# EAGLE library part 66201111122 (library Wurth_Elektronik_Electromechanic_Wire_to_Board_Connectors_rev16a)
WR-MPC3 3.00mm Male Single Row Vertical Header, 11 Pins=>Code : Con_WTB_MPC3_1_PCB_66201111122 <http://katalog.we-online.de/media/thumbs2/eican/thb_Con_WTB_MPC3_1_PCB_6620xx11122_pf2.jpg> Details see: http://katalog.we-online.de/en/em/662_0xx_111_22 Created 2014-06-06, Karrer Zheng 2014 (C) Würth Elektronik
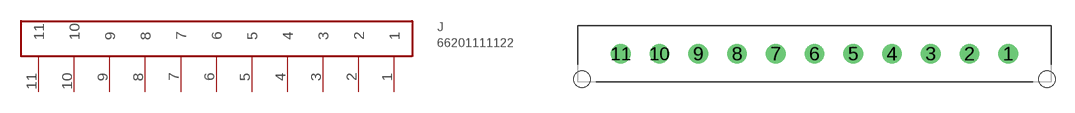
[diagram p357: symbol with the pads of 66201111122; footprint 66201111122]

Designator prefix J

## 66201111122  [66201111122]
1  1
2  2
3  3
4  4
5  5
6  6
7  7
8  8
9  9
10  10
11  11

## Footprint 66201111122 (pad centres in mm)
WR-MPC3 3.00mm Male Single Row Vertical Header, 11 Pins
drill 1.02: 1 15,0; 2 12,0; 3 9,0; 4 6,0; 5 3,0; 6 0,0; 7 -3,0; 8 -6,0; 9 -9,0; 10 -12,0; 11 -15,0
hole 1.27 at 18,-1.96
hole 1.27 at -18,-1.96